# Altium footprint library PcbLib.PcbLib: 17 footprints (part 1 of 2)
Each footprint in its own frame and in the unit in brackets; x right, y up, seen from the top. Pads: shape width x height; smd on the part's side, far side on the other; paste and mask are expansions set on the pad; w line width, h text height; cw(c..) or ccw(c..) is an arc to the next point about the centre after c.
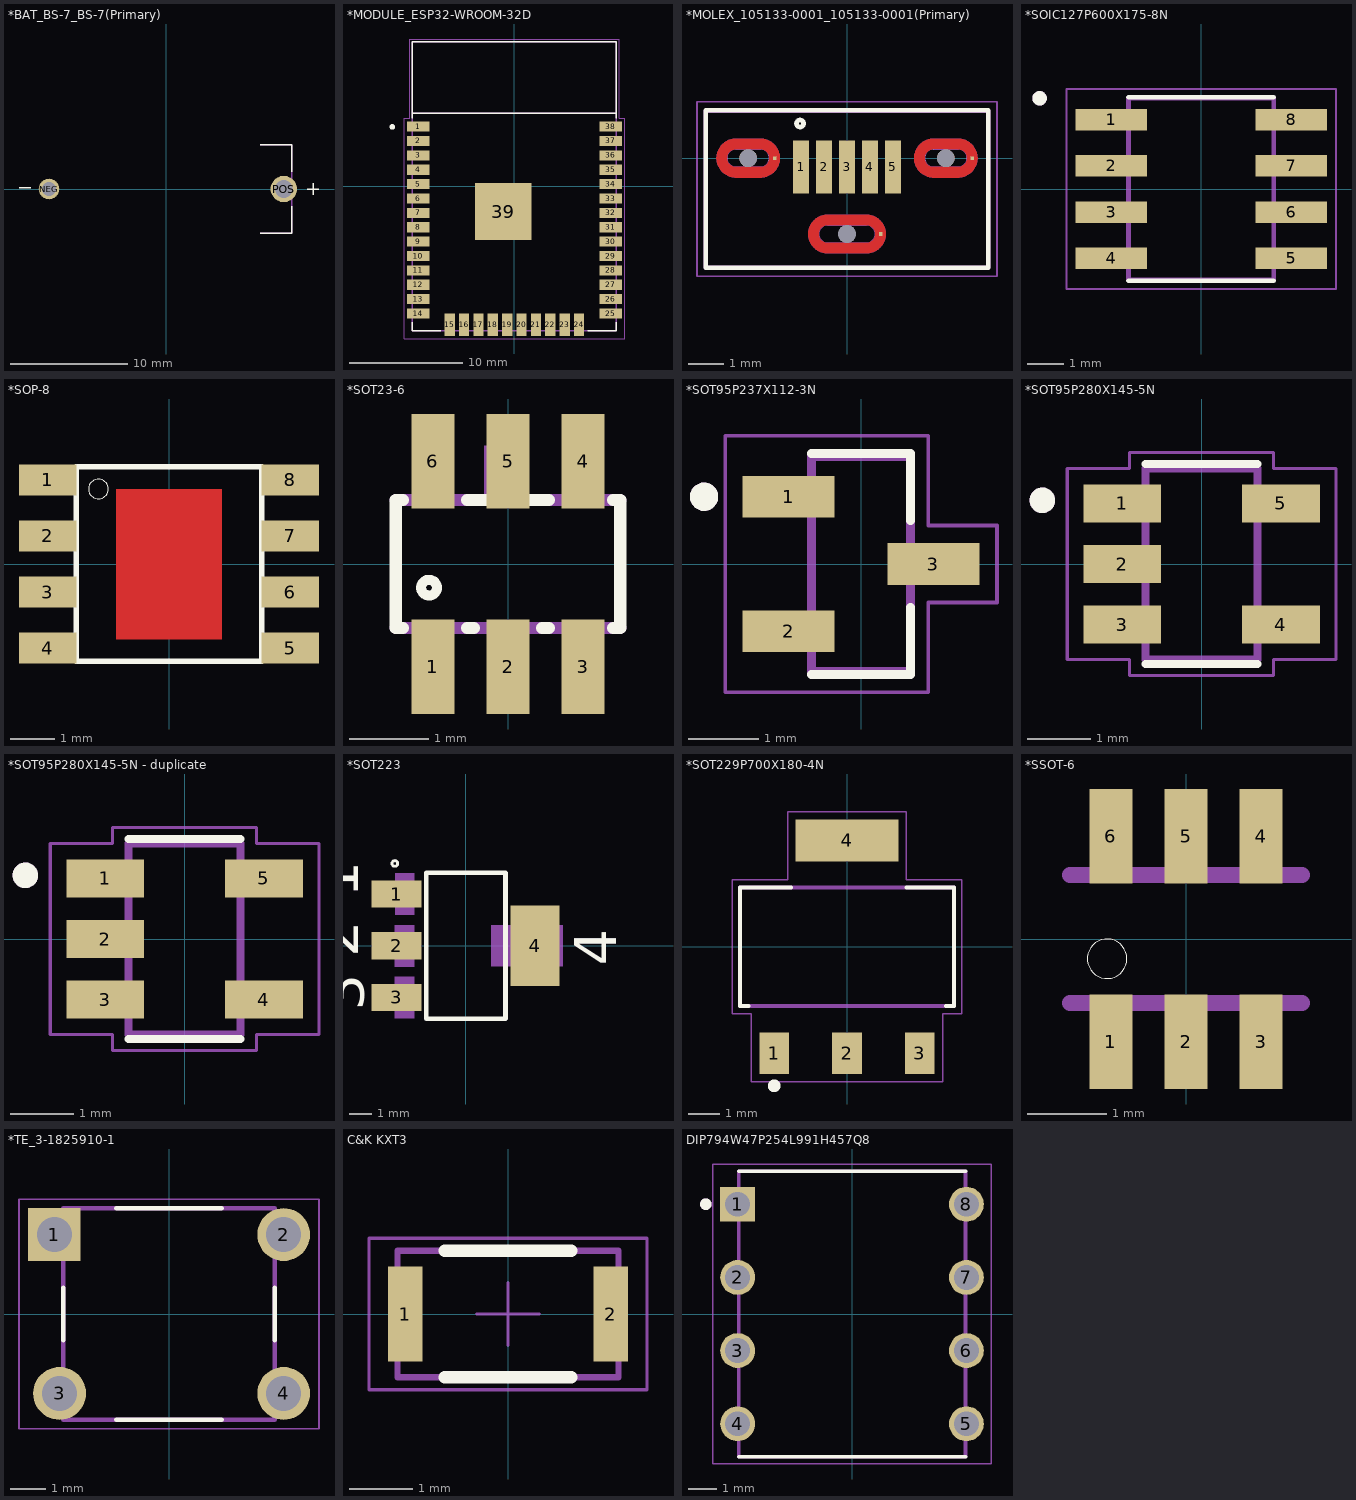
[diagram p0: the footprints below, top view; thin cyan lines are the x and y axes]

## *BAT_BS-7_BS-7(Primary) [mm]
pads (2):
  round 1.755 hole 1.17: NEG(-10,0)
  round 2.25 hole 1.5: POS(10,0)
Top Overlay:
  lines w0.127: -12.557,0.127 -11.557,0.127 ; 7.995,-3.75 10.69,-3.75 10.69,-1.47 ; 7.995,3.75 10.69,3.75 10.69,1.47 ; 12,0 13,0 ; 12.5,-0.5 12.5,0.5
Mechanical 4:
  lines w0.127: 10.69,-3.75 10.69,3.75 ; 10.69,-3.75 7.995,-3.75 10.69,-3.75 ; 10.69,-3.75 10.69,3.75 ; 10.69,3.75 7.995,3.75 10.69,3.75

## *MODULE_ESP32-WROOM-32D [mm]
pads (39):
  rect 2x0.9 smd: 1(-8.5,5.26) 2(-8.5,3.99) 3(-8.5,2.72) 4(-8.5,1.45) 5(-8.5,0.18) 6(-8.5,-1.09) 7(-8.5,-2.36) 8(-8.5,-3.63) 9(-8.5,-4.9) 10(-8.5,-6.17) 11(-8.5,-7.44) 12(-8.5,-8.71) 13(-8.5,-9.98) 14(-8.5,-11.25) 25(8.5,-11.25) 26(8.5,-9.98) 27(8.5,-8.71) 28(8.5,-7.44) 29(8.5,-6.17) 30(8.5,-4.9) 31(8.5,-3.63) 32(8.5,-2.36) 33(8.5,-1.09) 34(8.5,0.18) 35(8.5,1.45) 36(8.5,2.72) 37(8.5,3.99) 38(8.5,5.26)
  rect 0.9x2 smd: 15(-5.715,-12.25) 16(-4.445,-12.25) 17(-3.175,-12.25) 18(-1.905,-12.25) 19(-0.635,-12.25) 20(0.635,-12.25) 21(1.905,-12.25) 22(3.175,-12.25) 23(4.445,-12.25) 24(5.715,-12.25)
  rect 5x5 smd: 39(-1,-2.24)
Top Overlay:
  circle w0.3: c-10.777,5.238 r0.1
  lines w0.127: -9,-12 -9,-12.75 -6.5,-12.75 ; -9,6 -9,12.75 9,12.75 9,6 ; -8.96,6.45 8.96,6.45 ; 6.5,-12.75 9,-12.75 9,-12
Top Paste:
  region: -2.584,-0.659 0.581,-0.659 0.581,-3.825 -2.584,-3.825
Mechanical 4:
  circle w0.3: c-8.277,5.238 r0.1
  circle w0.3: c-8.277,5.238 r0.1
  lines w0.127: -9,-12.75 9,-12.75 ; -9,-12.75 -9,12.75 ; -9,-12.75 9,-12.75 ; -9,-12.75 -9,12.75 ; -9,12.75 9,12.75 ; -9,12.75 9,12.75 ; 9,-12.75 9,12.75 ; 9,-12.75 9,12.75 ; -8.96,6.45 8.96,6.45 -8.96,6.45
  text "ANTENNA" at -5.725,8.401 h1.88
  text "ANTENNA" at -5.725,8.401 h1.88
Mechanical 16:
  lines w0.05: -9.75,-13.5 9.75,-13.5 9.75,6 9.25,6 9.25,13 -9.25,13 -9.25,6 -9.75,6 -9.75,-13.5
3D body "ESP-WROOM-32--3DModel-STEP-56544.STEP": height 3.25, standoff 0, extent -8.983,-12.7 9.017,12.8

## *MOLEX_105133-0001_105133-0001(Primary) [mm]
pads (11):
  rect 0.45x1.5 smd: 1(-1.3,-0.25) 2(-0.65,-0.25) 3(0,-0.25) 4(0.65,-0.25) 5(1.3,-0.25)
  round 0.5 hole 0.5 unplated: None(-2.8,0) None(0,-2.15) None(2.8,0)
  rect 0.1x0.1 smd: S1(-2.05,0) S2(3.55,0) S3(0.95,-2.15)
Top Layer:
  region: 249 vertices and 0 holes, not listed, extent -1.1,-2.7 1.1,-1.6
  region: 249 vertices and 0 holes, not listed, extent -3.7,-0.55 -1.9,0.55
  region: 249 vertices and 0 holes, not listed, extent 1.9,-0.55 3.7,0.55
Bottom Layer:
  region: 249 vertices and 0 holes, not listed, extent -1.1,-2.7 1.1,-1.6
  region: 249 vertices and 0 holes, not listed, extent -3.7,-0.55 -1.9,0.55
  region: 249 vertices and 0 holes, not listed, extent 1.9,-0.55 3.7,0.55
Top Overlay:
  circle w0.13: c-1.33,0.98 r0.1
  lines w0.127: -4,1.34 -4,-3.1 4,-3.1 4,1.35 -4,1.35
Top Paste:
  drawing of 3 lines, arcs and shapes, not listed
Bottom Paste:
  drawing of 3 lines, arcs and shapes, not listed
Top Solder:
  region: -3.945,0.75 -1.675,0.75 -1.675,-0.754 -3.945,-0.754
  region: 1.684,0.75 3.925,0.75 3.925,-0.754 1.684,-0.754
  region: -1.256,-1.4 1.25,-1.4 1.25,-2.914 -1.256,-2.914
Bottom Solder:
  region: -3.946,0.75 -1.675,0.75 -1.675,-0.754 -3.946,-0.754
  region: 1.687,0.75 3.925,0.75 3.925,-0.755 1.687,-0.755
  region: -1.255,-1.4 1.25,-1.4 1.25,-2.912 -1.255,-2.912
Mechanical 1:
  lines w0.005: -3.4,0 cw(c-3.15,0) -3.15,0.25 -2.45,0.25 cw(c-2.45,0) -2.2,0 cw(c-2.45,0) -2.45,-0.25 -3.15,-0.25 cw(c-3.15,0) -3.4,0 ; -0.8,-2.15 cw(c-0.55,-2.15) -0.55,-1.9 0.55,-1.9 cw(c0.55,-2.15) 0.8,-2.15 cw(c0.55,-2.15) 0.55,-2.4 -0.55,-2.4 cw(c-0.55,-2.15) -0.8,-2.15 ; 2.2,0 cw(c2.45,0) 2.45,0.25 3.15,0.25 cw(c3.15,0) 3.4,0 cw(c3.15,0) 3.15,-0.25 2.45,-0.25 cw(c2.45,0) 2.2,0
Mechanical 4:
  lines w0.127: -4,-3.1 -4,1.345 ; -4,-3.1 4,-3.1 ; -4,-3.1 -4,1.345 ; -4,-3.1 4,-3.1 ; -4,1.345 4,1.345 ; -4,1.345 4,1.345 ; 4,-3.1 4,1.345 ; 4,-3.1 4,1.345
Mechanical 16:
  lines w0.05: -4.25,-3.35 -4.25,1.6 4.25,1.6 4.25,-3.35 -4.25,-3.35

## *SOIC127P600X175-8N [mm]
pads (8):
  rect 1.97x0.59 smd: 1(-2.475,1.905) 2(-2.475,0.635) 3(-2.475,-0.635) 4(-2.475,-1.905) 5(2.475,-1.905) 6(2.475,-0.635) 7(2.475,0.635) 8(2.475,1.905)
Top Overlay:
  circle w0.2: c-4.445,2.495 r0.1
  lines w0.127: -2,-2.52 2,-2.52 ; -2,2.52 2,2.52
Mechanical 4:
  circle w0.2: c-4.445,2.495 r0.1
  circle w0.2: c-4.445,2.495 r0.1
  lines w0.127: -2,-2.5 2,-2.5 ; -2,-2.5 -2,2.5 ; -2,-2.5 2,-2.5 ; -2,-2.5 -2,2.5 ; -2,2.5 2,2.5 ; -2,2.5 2,2.5 ; 2,-2.5 2,2.5 ; 2,-2.5 2,2.5
Mechanical 16:
  lines w0.05: -3.71,-2.75 3.71,-2.75 3.71,2.75 -3.71,2.75 -3.71,-2.75

## *SOP-8 [mm]
pads (8):
  rect 1.3x0.7 smd: 1(-2.75,1.905) 2(-2.75,0.635) 3(-2.75,-0.635) 4(-2.75,-1.905) 5(2.75,-1.905) 6(2.75,-0.635) 7(2.75,0.635) 8(2.75,1.905)
Top Layer:
  region: -1.2,1.7 1.2,1.7 1.2,-1.7 -1.2,-1.7
Top Overlay:
  circle w0: c-1.6,1.7 r0.224
  lines w0.127: -2.1,-2.2 -2.1,2.2 2.1,2.2 2.1,-2.2 -2.1,-2.2

## *SOT23-6 [mm]
pads (6):
  rect 0.55x1.2 smd: 1(-0.95,-1.3) 2(0,-1.3) 3(0.95,-1.3) 4(0.95,1.3) 5(0,1.3) 6(-0.95,1.3)
Top Overlay:
  circle w0.127: c-1,-0.3 r0.1
  lines w0.152: -1.328,-0.81 -1.422,-0.81 -1.422,0.81 -1.328,0.81 ; -0.522,-0.81 -0.428,-0.81 ; -0.522,0.81 0.522,0.81 ; 0.428,-0.81 0.522,-0.81 ; 1.328,-0.81 1.422,-0.81 1.422,0.81 1.328,0.81
Mechanical 4:
  region: -0.3,1.5 0.2,1.5 0.2,0.85 -0.3,0.85
  region: -1.2,1.5 -0.7,1.5 -0.7,0.85 -1.2,0.85
  region: 0.7,1.5 1.2,1.5 1.2,0.85 0.7,0.85
  region: 0.7,-0.85 1.2,-0.85 1.2,-1.5 0.7,-1.5
  region: -0.25,-0.85 0.25,-0.85 0.25,-1.5 -0.25,-1.5
  region: -1.2,-0.85 -0.7,-0.85 -0.7,-1.5 -1.2,-1.5
  region: -0.3,1.5 0.2,1.5 0.2,0.85 -0.3,0.85
  region: -1.2,1.5 -0.7,1.5 -0.7,0.85 -1.2,0.85
  region: 0.7,1.5 1.2,1.5 1.2,0.85 0.7,0.85
  region: 0.7,-0.85 1.2,-0.85 1.2,-1.5 0.7,-1.5
  region: -0.25,-0.85 0.25,-0.85 0.25,-1.5 -0.25,-1.5
  region: -1.2,-0.85 -0.7,-0.85 -0.7,-1.5 -1.2,-1.5
  lines w0.152: -1.422,-0.81 1.422,-0.81 -1.422,-0.81 ; -1.422,0.81 1.422,0.81 -1.422,0.81

## *SOT95P237X112-3N [mm]
pads (3):
  rect 1.3x0.59 smd: 1(-1.025,0.95) 2(-1.025,-0.95) 3(1.025,0)
Top Overlay:
  circle w0.2: c-2.222,0.953 r0.1
  lines w0.127: -0.7,-1.565 0.7,-1.565 0.7,-0.615 ; -0.7,1.565 0.7,1.565 0.7,0.615
Mechanical 4:
  circle w0.2: c-2.222,0.953 r0.1
  circle w0.2: c-2.222,0.953 r0.1
  lines w0.127: -0.7,-1.52 -0.7,1.52 ; -0.7,-1.52 0.7,-1.52 ; -0.7,-1.52 -0.7,1.52 ; -0.7,-1.52 0.7,-1.52 ; -0.7,1.52 0.7,1.52 ; -0.7,1.52 0.7,1.52 ; 0.7,-1.52 0.7,1.52 ; 0.7,-1.52 0.7,1.52
Mechanical 16:
  lines w0.05: -1.925,-1.815 0.95,-1.815 0.95,-0.545 1.925,-0.545 1.925,0.545 0.95,0.545 0.95,1.815 -1.925,1.815 -1.925,-1.815

## *SOT95P280X145-5N [mm]
pads (5):
  rect 1.22x0.6 smd: 1(-1.245,0.95) 2(-1.245,0) 3(-1.245,-0.95) 4(1.245,-0.95) 5(1.245,0.95)
Top Overlay:
  circle w0.2: c-2.5,1 r0.1
  lines w0.127: -0.88,-1.57 0.88,-1.57 ; -0.88,1.57 0.88,1.57
Mechanical 4:
  circle w0.2: c-2.5,1 r0.1
  circle w0.2: c-2.5,1 r0.1
  lines w0.127: -0.88,-1.5 0.88,-1.5 ; -0.88,-1.5 -0.88,1.5 ; -0.88,-1.5 0.88,-1.5 ; -0.88,-1.5 -0.88,1.5 ; -0.88,1.5 0.88,1.5 ; -0.88,1.5 0.88,1.5 ; 0.88,-1.5 0.88,1.5 ; 0.88,-1.5 0.88,1.5
Mechanical 16:
  lines w0.05: -2.11,-1.5 -2.11,1.5 -1.13,1.5 -1.13,1.75 1.13,1.75 1.13,1.5 2.11,1.5 2.11,-1.5 1.13,-1.5 1.13,-1.75 -1.13,-1.75 -1.13,-1.5 -2.11,-1.5

## *SOT95P280X145-5N - duplicate [mm]
pads (5):
  rect 1.22x0.6 smd: 1(-1.245,0.95) 2(-1.245,0) 3(-1.245,-0.95) 4(1.245,-0.95) 5(1.245,0.95)
Top Overlay:
  circle w0.2: c-2.5,1 r0.1
  lines w0.127: -0.88,-1.57 0.88,-1.57 ; -0.88,1.57 0.88,1.57
Mechanical 4:
  circle w0.2: c-2.5,1 r0.1
  circle w0.2: c-2.5,1 r0.1
  lines w0.127: -0.88,-1.5 0.88,-1.5 ; -0.88,-1.5 -0.88,1.5 ; -0.88,-1.5 0.88,-1.5 ; -0.88,-1.5 -0.88,1.5 ; -0.88,1.5 0.88,1.5 ; -0.88,1.5 0.88,1.5 ; 0.88,-1.5 0.88,1.5 ; 0.88,-1.5 0.88,1.5
Mechanical 16:
  lines w0.05: -2.11,-1.5 -2.11,1.5 -1.13,1.5 -1.13,1.75 1.13,1.75 1.13,1.5 2.11,1.5 2.11,-1.5 1.13,-1.5 1.13,-1.75 -1.13,-1.75 -1.13,-1.5 -2.11,-1.5

## *SOT223 [mil]
pads (4):
  rect 88x48 smd: 1(-122,91) 2(-122,0) 3(-122,-91)
  rect 86.61x141.73 smd: 4(122.01,0)
Top Overlay:
  circle w5: c-125,145 r5
  lines w8: -70,-129 -70,129 70,129 70,-129 -70,-129
  text "2" at -190,-20 h73.82
  text "1" at -190,85 h73.82
  text "4" at 265,-35 h73.82
  text "3" at -180,-115 h73.82
Mechanical 13:
  region: -124.93,-54.5 -90.5,-54.5 -90.5,-127.94 -124.93,-127.94
  region: -124.66,127.5 -90.5,127.5 -90.5,54.57 -124.66,54.57
  region: -124.79,36.5 -90.5,36.5 -90.5,-36.58 -124.79,-36.58
  region: 44.56,36.5 170.5,36.5 170.5,-36.55 44.56,-36.55
  region: -124.61,-54.5 -90.5,-54.5 -90.5,-127.61 -124.61,-127.61
  region: -124.7,127.5 -90.5,127.5 -90.5,54.59 -124.7,54.59
  region: -124.61,36.5 -90.5,36.5 -90.5,-36.53 -124.61,-36.53
  region: 44.55,36.5 170.5,36.5 170.5,-36.54 44.55,-36.54
  region: -124.93,-54.5 -90.5,-54.5 -90.5,-127.94 -124.93,-127.94
  region: -124.66,127.5 -90.5,127.5 -90.5,54.57 -124.66,54.57
  region: -124.79,36.5 -90.5,36.5 -90.5,-36.58 -124.79,-36.58
  region: 44.56,36.5 170.5,36.5 170.5,-36.55 44.56,-36.55
  region: -124.61,-54.5 -90.5,-54.5 -90.5,-127.61 -124.61,-127.61
  region: -124.7,127.5 -90.5,127.5 -90.5,54.59 -124.7,54.59
  region: -124.61,36.5 -90.5,36.5 -90.5,-36.53 -124.61,-36.53
  region: 44.55,36.5 170.5,36.5 170.5,-36.54 44.55,-36.54

## *SOT229P700X180-4N [mm]
pads (4):
  rect 0.93x1.31 smd: 1(-2.29,-3.345) 2(0,-3.345) 3(2.29,-3.345)
  rect 3.24x1.31 smd: 4(0,3.345)
Top Overlay:
  circle w0.2: c-2.29,-4.373 r0.1
  lines w0.127: -3.1,-1.86 -3.36,-1.86 -3.36,1.86 -1.76,1.86 ; 1.87,1.86 3.36,1.86 3.36,-1.86 3.11,-1.86
Mechanical 4:
  lines w0.127: -3.36,-1.86 3.36,-1.86 ; -3.36,-1.86 -3.36,1.86 ; -3.36,-1.86 3.36,-1.86 ; -3.36,-1.86 -3.36,1.86 ; -3.36,1.86 3.36,1.86 ; -3.36,1.86 3.36,1.86 ; 3.36,-1.86 3.36,1.86 ; 3.36,-1.86 3.36,1.86
Mechanical 16:
  lines w0.05: -3.61,-2.11 -3.01,-2.11 -3.01,-4.25 3.01,-4.25 3.01,-2.11 3.61,-2.11 3.61,2.11 1.87,2.11 1.87,4.25 -1.87,4.25 -1.87,2.11 -3.61,2.11 -3.61,-2.11

## *SSOT-6 [mm]
pads (6):
  rect 0.55x1.2 smd: 1(-0.95,-1.3) 2(0,-1.3) 3(0.95,-1.3) 4(0.95,1.3) 5(0,1.3) 6(-0.95,1.3)
Top Overlay:
  circle w0: c-1,-0.25 r0.25
Mechanical 4:
  region: -1.202,-0.85 -0.7,-0.85 -0.7,-1.503 -1.202,-1.503
  region: -0.25,-0.85 0.25,-0.85 0.25,-1.502 -0.25,-1.502
  region: 0.701,-0.85 1.2,-0.85 1.2,-1.502 0.701,-1.502
  region: 0.7,1.5 1.2,1.5 1.2,0.851 0.7,0.851
  region: -0.25,1.5 0.25,1.5 0.25,0.85 -0.25,0.85
  region: -1.201,1.5 -0.7,1.5 -0.7,0.851 -1.201,0.851
  region: -1.202,-0.85 -0.7,-0.85 -0.7,-1.503 -1.202,-1.503
  region: -0.25,-0.85 0.25,-0.85 0.25,-1.502 -0.25,-1.502
  region: 0.701,-0.85 1.2,-0.85 1.2,-1.502 0.701,-1.502
  region: 0.7,1.5 1.2,1.5 1.2,0.851 0.7,0.851
  region: -0.25,1.5 0.25,1.5 0.25,0.85 -0.25,0.85
  region: -1.201,1.5 -0.7,1.5 -0.7,0.851 -1.201,0.851
  lines w0.203: -1.472,-0.81 1.472,-0.81 -1.472,-0.81 ; -1.472,0.81 1.472,0.81 -1.472,0.81

## *TE_3-1825910-1 [mm]
pads (4):
  rect 1.498x1.498 hole 0.99: 1(-3.25,2.25)
  round 1.498 hole 0.99: 2(3.25,2.25) 3(-3.1,-2.25) 4(3.25,-2.25)
Top Overlay:
  lines w0.127: -3,-0.75 -3,0.75 ; -1.5,-3 1.5,-3 ; -1.5,3 1.5,3 ; 3,-0.75 3,0.75
Mechanical 4:
  lines w0.127: -3,-3 3,-3 ; -3,-3 -3,3 ; -3,-3 3,-3 ; -3,-3 -3,3 ; -3,3 3,3 ; -3,3 3,3 ; 3,-3 3,3 ; 3,-3 3,3
Mechanical 16:
  lines w0.05: -4.25,-3.25 -4.25,3.25 4.25,3.25 4.25,-3.25 -4.25,-3.25

## BUZZER PİN [mm]
via 7.874,0.635 diameter 1.27 hole 0.711
via -2.159,0.762 diameter 1.27 hole 0.711

## C&K KXT3 [mm]
height 0.6
pads (2):
  rect 0.55x1.5 smd: 1(-1.625,0) 2(1.625,0)
Top Overlay:
  lines w0.2: -1,-1 1,-1 ; -1,1 1,1
Mechanical 13:
  lines w0.1: -1.75,-1 -1.75,1 1.75,1 1.75,-1 -1.75,-1
Mechanical 15:
  lines w0.05: -0.5,0 0.5,0 ; 0,-0.5 0,0.5 ; -2.2,-1.2 2.2,-1.2 2.2,1.2 -2.2,1.2 -2.2,-1.2
3D body "C&K KXT.STEP": height 0.58, standoff 0, extent -1.75,-1 1.75,1

## DIP794W47P254L991H457Q8 [mm]
pads (8):
  rect 1.21x1.21 hole 0.86: 1(-3.97,3.81)
  round 1.21 hole 0.86: 2(-3.97,1.27) 3(-3.97,-1.27) 4(-3.97,-3.81) 5(3.97,-3.81) 6(3.97,-1.27) 7(3.97,1.27) 8(3.97,3.81)
Top Overlay:
  circle w0.2: c-5.075,3.81 r0.1
  lines w0.127: -3.935,-4.955 3.935,-4.955 ; -3.935,4.955 3.935,4.955
Mechanical 13:
  circle w0.2: c-5.075,3.81 r0.1
  lines w0.127: -3.935,-4.955 3.935,-4.955 3.935,4.955 -3.935,4.955 -3.935,-4.955
Mechanical 15:
  lines w0.05: -4.825,-5.205 4.825,-5.205 4.825,5.205 -4.825,5.205 -4.825,-5.205